# EAGLE library part CON_AVRISP (library akita)
AVR ISP standard 2x3 connector
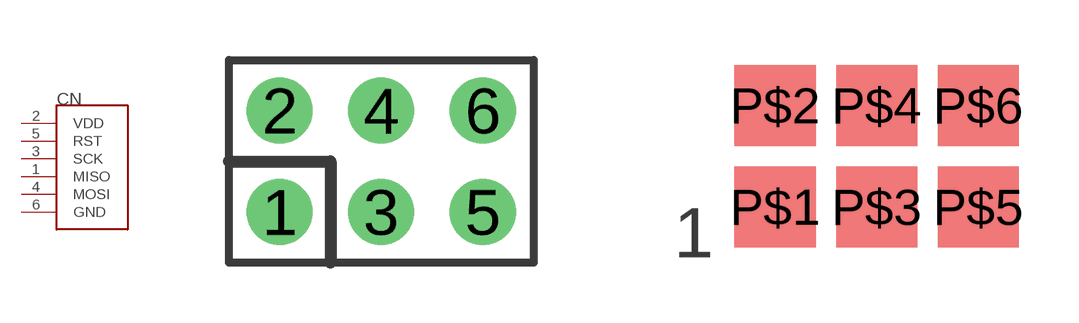
[diagram p180: symbol with the pads of 2X03R; footprints 2X03R, 2X3SMD]

Designator prefix CN

## CON_AVRISPTH  [2X03R]
1  MISO
2  VDD
3  SCK
4  MOSI
5  RST
6  GND

## CON_AVRISPSMD  [2X3SMD]
P$1  MISO
P$2  VDD
P$3  SCK
P$4  MOSI
P$5  RST
P$6  GND

## CON_AVRISPTHZ  [2X3RZ]
Pads as for 2X03R

## Footprint 2X03R (pad centres in mm)
drill 0.9 pad 1.651: 1 -2.54,-1.27; 2 -2.54,1.27; 3 0,-1.27; 4 0,1.27; 5 2.54,-1.27; 6 2.54,1.27

## Footprint 2X3SMD (pad centres in mm)
2x3, Top view
smd 2.032 x 2.032: P$1 -2.54,-1.27; P$2 -2.54,1.27; P$3 0,-1.27; P$4 0,1.27; P$5 2.54,-1.27; P$6 2.54,1.27

## Footprint 2X3RZ (pad centres in mm)
2x3, zigzag
drill 0.9 pad 1.651: 1 -2.54,-1.27; 2 -2.54,1.37; 3 0,-1.17; 4 0,1.27; 5 2.54,-1.27; 6 2.54,1.37